# Altium schematic symbol library SchLibrary.SchLib: 84 symbols
Pins are listed as number, name and electrical type; pins without a type are passive.

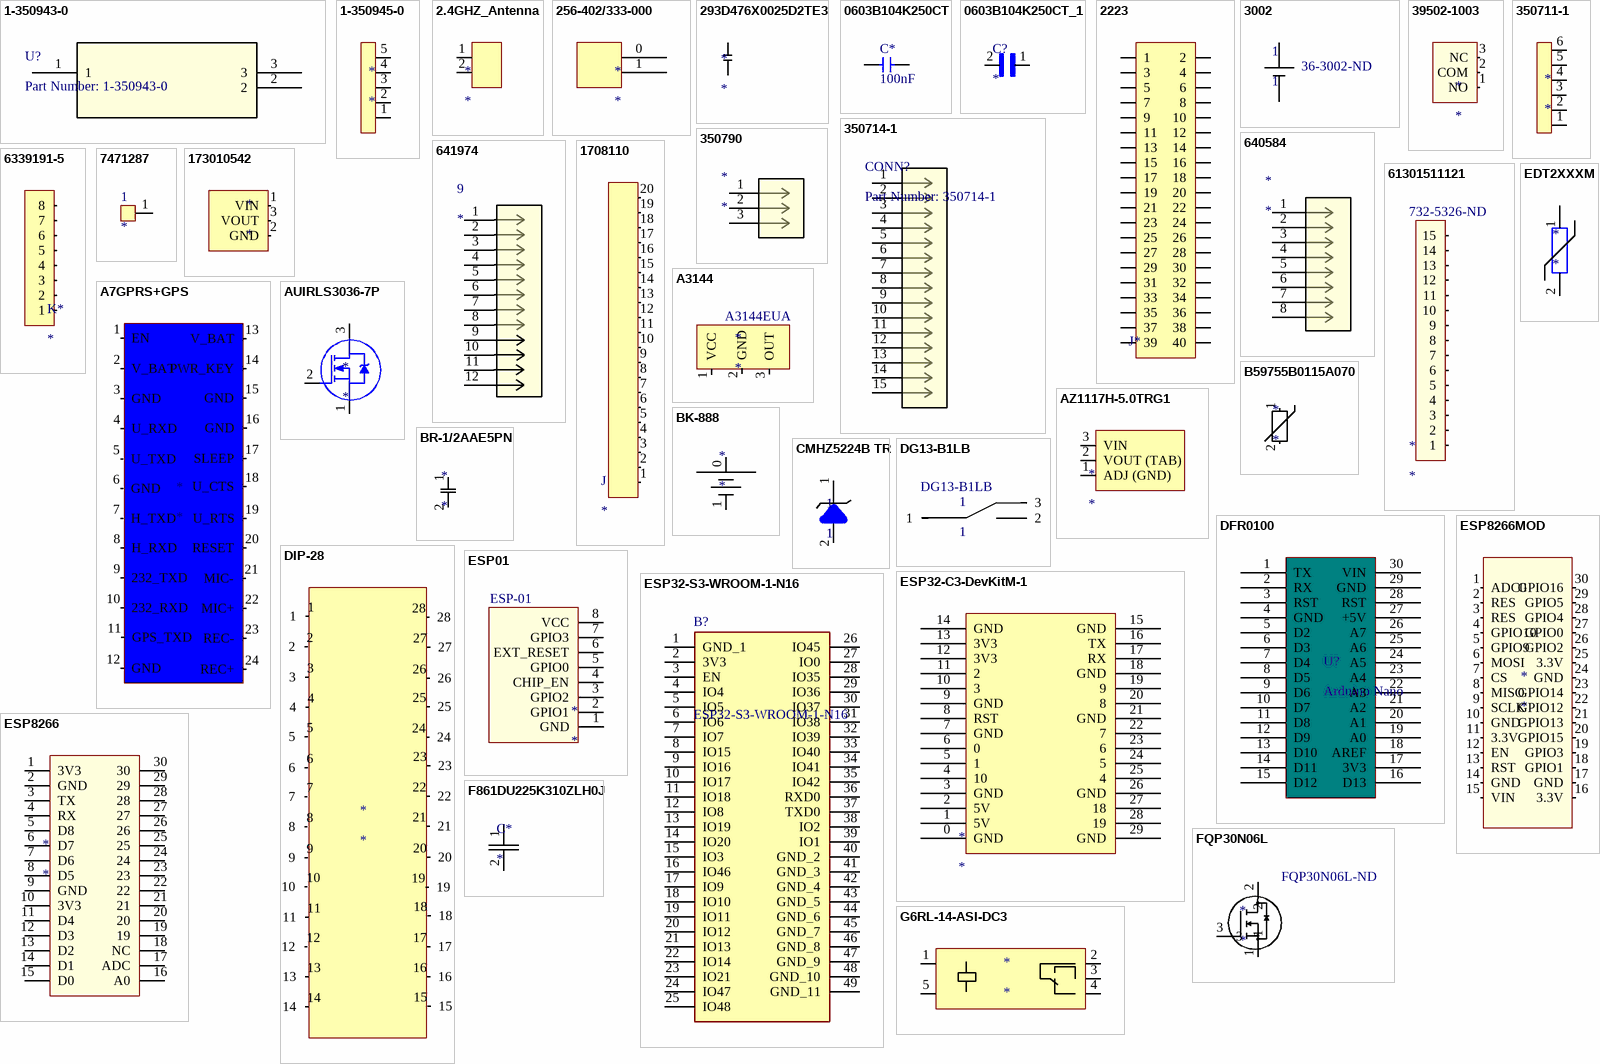
[diagram p0: symbols 1-350943-0 to G6RL-14-ASI-DC3]

## 1-350943-0
designator U?, comment Part Number: 1-350943-0
No Description Available; Vendor: TE Connectivity; Built_By: EMA_UL_Team; Manufacturer_Part_Number: 1-350943-0; Copyright: Copyright (C) 2018 Accelerated Designs. All rights reserved; RefDes: RefDes; Type: DEV; Value: Value
footprint 1-350943-0
pins: 1, 2, 3

## 1-350945-0
designator *
footprint 1-350945-0
pins: 1 GND, 2 GND, 3 GND, 4 GND, 5 GND

## 2.4GHZ_Antenna
designator *
footprint 2.54GHZ_Antenna
pins: 1, 2

## 256-402/333-000
designator *
footprint 256-402/333-000
pins: 0, 1

## 293D476X0025D2TE3
designator *
footprint 293D476X0025D2TE3
pins: 1, 2

## 0603B104K250CT
designator C*, comment 100nF
footprint 0603B104K250 (0603 Capacitor 100nF)
pins: 1, 2

## 0603B104K250CT_1
designator C?
SMD Condensador CerÃ¡mico 100nF 25V Â±10% X7R 0603 POE / WALSIN; MP: 0603B104K250CT; MF: {'manufacturer': u'Walsin Technology Corporation'}; Availability: Unavailable; Package: None; Value: *; Price: None
footprint CAPC1608X87N
pins: 1, 2

## 2223
designator J*  (value not drawn)
40 PIN 20X2 CONN
footprint 2223 (40 PIN 20X2 CONN)
pins: 1, 2, 3, 4, 5, 6, 7, 8, 9, 10, 11, 12, 13, 14, 15, 16, 17, 18, 19, 20, 21, 22, 23, 24, 25, 26, 27, 28, 29, 30, 31, 32, 33, 34, 35, 36, 37, 38, 39, 40

## 3002
designator 1, comment 1  Supplier Part Number 1: 36-3002-ND
Supplier 1: Digi-Key
footprint 3002
pins: 1 "POS", 2 "NEG"

## 39502-1003
designator *
footprint 39502-1003
pins: 1 NO, 2 COM, 3 NC

## 350711-1
designator *
footprint 350711
pins: 1 GND, 2 GND, 3 GND, 4 GND, 5 GND, 6 GND

## 350714-1
designator CONN?, comment Part Number: 350714-1
15 PIN VERT MATE N LOCK; Vendor: TE Connectivity; Built_By: EMA_UL_Team; Manufacturer_Part_Number: 350714-1; Copyright: Copyright (C) 2016 Accelerated Designs. All rights reserved; RefDes: RefDes; Type: DEV; Value: Value
footprint 350714-1
pins: 1, 2, 3, 4, 5, 6, 7, 8, 9, 10, 11, 12, 13, 14, 15

## 350790
designator *
footprint 350790
pins: 1, 2, 3

## 640584
designator *
footprint 640584-1
pins: 1, 2, 3, 4, 5, 6, 7, 8

## 641974
designator 9
footprint 641974
pins: 1, 2, 3, 4, 5, 6, 7, 8, 9, 10, 11, 12

## 1708110
designator J
footprint 1708110
pins: 1, 2, 3, 4, 5, 6, 7, 8, 9, 10, 11, 12, 13, 14, 15, 16, 17, 18, 19, 20

## 6339191-5
designator K*
RJ45 Female SMD
footprint 6339191-5
pins: 1, 2, 3, 4, 5, 6, 7, 8

## 7471287
designator 1
footprint 7471287
pins: 1 GND

## 173010542
designator *
footprint 173010542
pins: 1 VIN, 2 GND, 3 VOUT

## 61301511121
designator *  Supplier Part Number 1: 732-5326-ND
WURTH ELEKTRONIK         61301511121            Board-To-Board Connector, Vertical, WR-PHD Series, Through Hole, Header, 15 Contacts, 2.54 mm; Manufacturer: Wurth Electronics; Number of Positions: 15; Gender: Male; Connector Type: Male Pin; Pitch: 0.1inch; Supplier 1: Digi-Key; Manufacturer Part Number: 61301511121; RoHS: Yes; Category: Connectors; Stock 1: 961; Pricing 1: 1=0.82000, 10=0.69700, 25=0.58120, 50=0.48400, 100=0.44000, 500=0.40000 (USD); Mount: Through Hole; Contact Plating: Gold; Contact Material: Copper; Color: Black; Number of Rows: 1; Packaging: Bulk; Termination: Solder; Number of Contacts: 15; Contact Mating Length: 0.236inch; REACH SVHC: Unknown; RoHS Compliant: Yes; ComponentLink1URL: http://www.farnell.com/cad/1737268.pdf?src-supplier=Element14; ComponentLink1Description: http://www.farnell.com/cad/1737268.pdf?src-supplier=Element14; ComponentLink2URL: https://katalog.we-online.de/em/datasheet/6130xx11121.pdf?src-supplier=Digi-Key; ComponentLink2Description: https://katalog.we-online.de/em/datasheet/6130xx11121.pdf?src-supplier=Digi-Key
footprint 61301511121
pins: 1, 2, 3, 4, 5, 6, 7, 8, 9, 10, 11, 12, 13, 14, 15

## A7GPRS+GPS
designator *
3G Controller
pins: 1 EN, 2 V_BAT, 3 GND, 4 U_RXD, 5 U_TXD, 6 GND, 7 H_TXD, 8 H_RXD, 9 232_TXD, 10 232_RXD, 11 GPS_TXD, 12 GND, 13 V_BAT, 14 PWR_KEY, 15 GND, 16 GND, 17 SLEEP, 18 U_CTS, 19 U_RTS, 20 RESET, 21 MIC-, 22 MIC+, 23 REC-, 24 REC+

## A3144
designator *  Supplier Part Number 1: A3144EUA
Hall Effect Sensor; Supplier 1: Arrow
pins: 1 VCC "COIL PIN 1", 2 GND "COIL PIN 1", 3 OUT "COIL PIN 1"

## AUIRLS3036-7P
designator *
pins: 1 S, 2 G, 3 D

## AZ1117H-5.0TRG1
designator *
footprint SOT230P700X180-4N
pins: 1 ADJ (GND), 2 VOUT (TAB), 3 VIN

## B59755B0115A070
designator *
footprint B59755B0115A070 (PTC, 500)
pins: 1, 2

## BK-888
designator *
pins: 0 +, 1 Neg

## BR-1/2AAE5PN
designator *
footprint BR-1/2AAE5PN
pins: 1 "NO", 2 "NO"

## CMHZ5224B TR
designator 1, comment 1
footprint CMHZ5224B TR
pins: 1 "DIODE PIN 1", 2 "DIODE PIN 1"

## DFR0100
designator U?, comment Arduino Nano
Supplier 1: Digi-Key; Supplier Part Number 1: 1738-1026-ND
footprint Arduino Nano
pins: 1 TX, 2 RX, 3 RST, 4 GND, 5 D2, 6 D3, 7 D4, 8 D5, 9 D6, 10 D7, 11 D8, 12 D9, 13 D10, 14 D11, 15 D12, 16 D13, 17 3V3, 18 AREF, 19 A0, 20 A1, 21 A2, 22 A3, 23 A4, 24 A5, 25 A6, 26 A7, 27 +5V, 28 RST, 29 GND, 30 VIN

## DG13-B1LB
designator 1, comment 1  Supplier Part Number 1: DG13-B1LB
Supplier 1: Arrow
footprint DG13-B1LB
pins: 1 "COMMON", 2 "NO", 3 "NO"

## DIP-28
designator *
footprint DIP-28
pins: 1, 2, 3, 4, 5, 6, 7, 8, 9, 10, 11, 12, 13, 14, 15, 16, 17, 18, 19, 20, 21, 22, 23, 24, 25, 26, 27, 28

## EDT2XXXM
designator *
footprint EDT2XXXM
pins: 1 "GND", 2 "GND"

## ESP01
designator *
footprint ESP-01
pins: 1 GND, 2 GPIO1, 3 GPIO2, 4 CHIP_EN, 5 GPIO0, 6 EXT_RESET, 7 GPIO3, 8 VCC
text: ESP-01

## ESP32-C3-DevKitM-1
designator *
ESP32-C3-DevKitM-1
pins: 0 GND, 1 5V, 2 5V, 3 GND, 4 10, 5 1, 6 0, 7 GND, 8 RST, 9 GND, 10 3, 11 2, 12 3V3, 13 3V3, 14 GND, 15 GND, 16 TX, 17 RX, 18 GND, 19 9, 20 8, 21 GND, 22 7, 23 6, 24 5, 25 4, 26 GND, 27 18, 28 19, 29 GND

## ESP32-S3-WROOM-1-N16
designator B?
WiFi Modules - 802.11 [Engineering Samples] SMD Module, ESP32-S3, 16 MB SPI Flash, PCB Antenna; Manufacturer_Name: Espressif Systems; Geometry.Height: 3.25mm; Mouser Part Number: 356-ESP32S3WROOM1N16; Mouser Price/Stock: https://www.mouser.co.uk/ProductDetail/Espressif-Systems/ESP32-S3-WROOM-1-N16?qs=Li%252BoUPsLEntjPrtJwwS5Pw%3D%3D; Manufacturer_Part_Number: ESP32-S3-WROOM-1-N16; Datasheet Link: https://www.espressif.com/sites/default/files/documentation/esp32-s3-wroom-1_wroom-1u_datasheet_en.pdf
footprint ESP32S3WROOM1N16
pins: 1 GND_1, 2 3V3, 3 EN, 4 IO4, 5 IO5, 6 IO6, 7 IO7, 8 IO15, 9 IO16, 10 IO17, 11 IO18, 12 IO8, 13 IO19, 14 IO20, 15 IO3, 16 IO46, 17 IO9, 18 IO10, 19 IO11, 20 IO12, 21 IO13, 22 IO14, 23 IO21, 24 IO47, 25 IO48, 26 IO45, 27 IO0, 28 IO35, 29 IO36, 30 IO37, 31 IO38, 32 IO39, 33 IO40, 34 IO41, 35 IO42, 36 RXD0, 37 TXD0, 38 IO2, 39 IO1, 40 GND_2, 41 GND_3, 42 GND_4, 43 GND_5, 44 GND_6, 45 GND_7, 46 GND_8, 47 GND_9, 48 GND_10, 49 GND_11

## ESP8266
designator *
pins: 1 3V3 "GND", 2 GND, 3 TX "GND", 4 RX "GND", 5 D8 "GND", 6 D7 "GND", 7 D6 "GND", 8 D5 "GND", 9 GND, 10 3V3 "GND", 11 D4 "GND", 12 D3 "GND", 13 D2 "GND", 14 D1 "GND", 15 D0 "GND", 16 A0 "GND", 17 ADC "GND", 18 NC "GND", 19 "GND", 20 "GND", 21 "GND", 22 "GND", 23 "GND", 24 "GND", 25 "GND", 26 "GND", 27 "GND", 28 "GND", 29 "GND", 30 "GND"

## ESP8266MOD
designator *
footprint ESP8266NODEMCU (NODEMCU ESP8266)
pins: 1 ADC0, 2 RES, 3 RES, 4 GPIO10, 5 GPIO9, 6 MOSI, 7 CS, 8 MISO, 9 SCLK, 10 GND, 11 3.3V, 12 EN, 13 RST, 14 GND, 15 VIN, 16 3.3V, 17 GND, 18 GPIO1, 19 GPIO3, 20 GPIO15, 21 GPIO13, 22 GPIO12, 23 GPIO14, 24 GND, 25 3.3V, 26 GPIO2, 27 GPIO0, 28 GPIO4, 29 GPIO5, 30 GPIO16

## F861DU225K310ZLH0J
designator C*
footprint F861DU225K310ZLH0J (FILM CAPACITOR, 2.2UF, 310V)
pins: 1 GND "1", 2 GND "1"

## FQP30N06L
designator *  Supplier Part Number 1: FQP30N06L-ND
Supplier 1: Digi-Key
footprint FQP30N06L (TO-220)
pins: 1, 2, 3

## G6RL-14-ASI-DC3
designator *
footprint G6RL-14-ASI-DC3
pins: 1, 2, 3, 4, 5

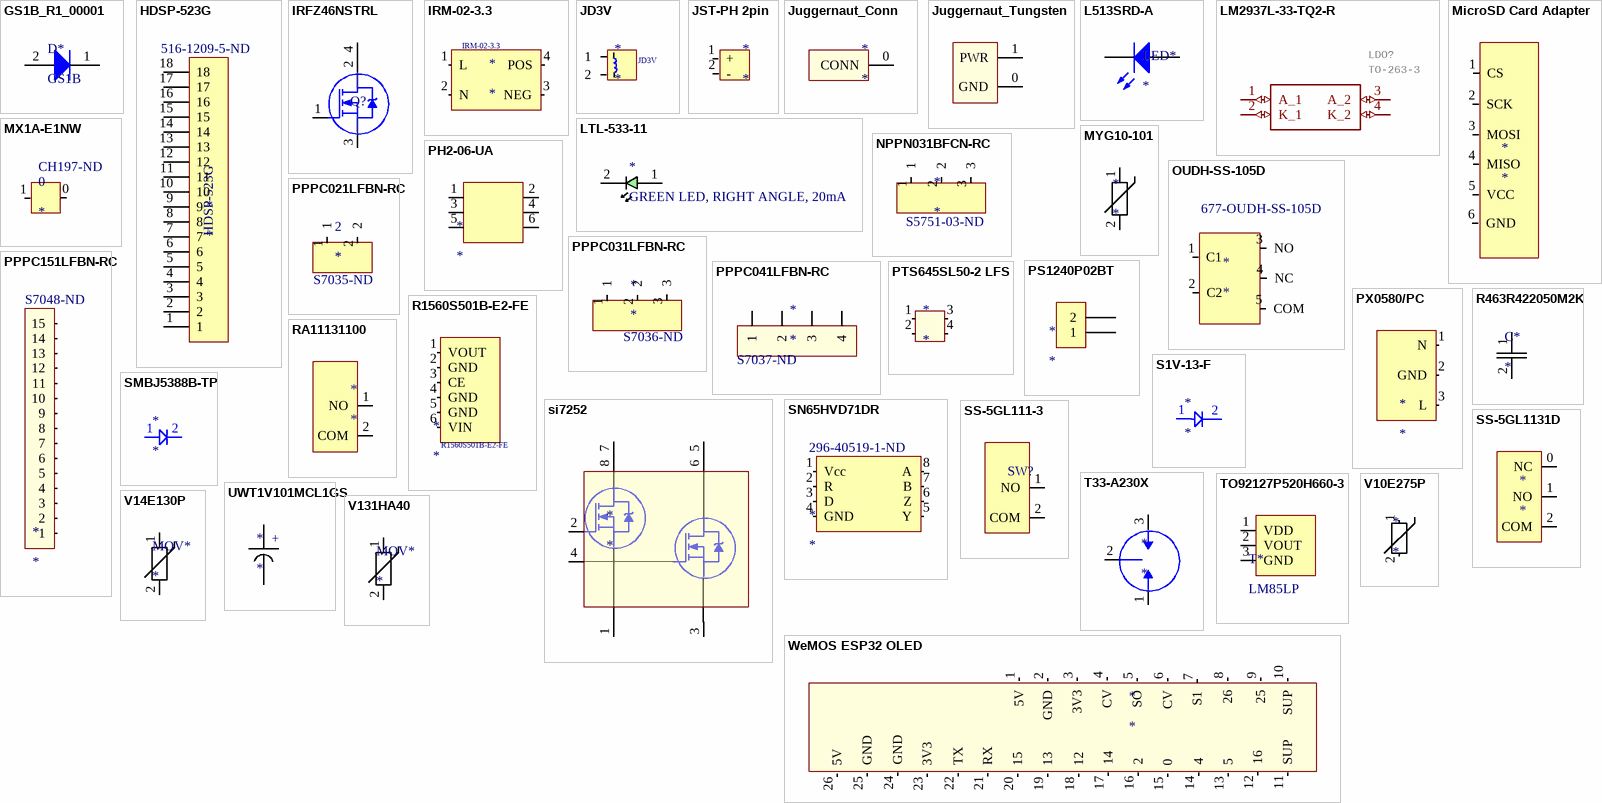
[diagram p1: symbols GS1B_R1_00001 to WeMOS ESP32 OLED]

## GS1B_R1_00001
designator D*, comment GS1B
footprint GS1B_R1_00001
pins: 1 K, 2 A

## HDSP-523G
designator *  Supplier Part Number 1: 516-1209-5-ND
7 segment display; Manufacturer: Broadcom Avago; Manufacturer Part Number: HDSP-523G; Forward Voltage: 2V; Luminous Intensity: 3.5mcd; Forward Current: 10mA; Max Power Dissipation: 105mW; Number of Characters: 2; Element Configuration: Common Cathode; Illumination Color: Green; Wavelength: 570nm; Viewing Area (height): 14.22mm; Number of Elements: 16; Reverse Voltage: 5V; Supplier 1: Digi-Key; RoHS: Yes; Stock 1: 1877; Pricing 1: 1 = 2.08000, 10 = 1.84400, 25 = 1.36840, 100 = 1.18980, 250 = 1.07080, 500 = 0.95182, 1000 = 0.81797, 2500 = 0.77336 (USD); Mount: Through Hole; Case/Package: DIP; Number of Pins: 18; Color: Green; Min Operating Temperature: -35°C; Max Operating Temperature: 85°C; Test Current: 10mA; Packaging: Rail/Tube; Package Quantity: 200; Operating Supply Voltage: 2V; Power Dissipation: 105mW; Dominant Wavelength: 570nm; Power Consumption: 105mW; Number of Positions: 2; Length: 25mm; Height: 0.732inch; Width: 0.984inch; Depth: 18.6mm; REACH SVHC: No SVHC; Lead Free: Lead Free; ComponentLink1URL: https://datasheet.ciiva.com/14162/rp660026-14162444.pdf?src-supplier=Distrelec; ComponentLink1Description: https://datasheet.ciiva.com/14162/rp660026-14162444.pdf?src-supplier=Distrelec; ComponentLink2URL: https://datasheet.ciiva.com/1229/95204-1229279.pdf?src-supplier=Element14; ComponentLink2Description: https://datasheet.ciiva.com/1229/95204-1229279.pdf?src-supplier=Element14
footprint HDSP-523G (7-segment display)
pins: 1, 2 "1", 3 "1", 4 "1", 5 "1", 6 "1", 7 "1", 8 "1", 9 "1", 10 "1", 11 "1", 12 "1", 13 "1", 14 "1", 15 "1", 16 "1", 17 "1", 18 "1"

## IRFZ46NSTRL
designator Q?, comment QD2PAK  (value not drawn)
MOSFET N-CH 55V 53A D2PAK
footprint D2PAK
pins: 1 G, 2 D, 3 S, 4 D

## IRM-02-3.3
designator *
230VAC-120VAC to 3.3V Power Supply
footprint IRM-02-3.3 (POWER SUPPLY, 3.3V)
pins: 1 L, 2 N, 3 NEG, 4 POS

## JD3V
designator *
Current Transformer
footprint JD3V (Current Transformer)
pins: 1 "COIL PIN 1", 2 "COIL PIN 1"

## JST-PH 2pin
designator *
footprint JST-PH 2PIN
pins: 1 +, 2 -

## Juggernaut_Conn
designator *
footprint Juggernaut_conn (pad)
pins: 0 CONN "GND"

## Juggernaut_Tungsten
designator ?
footprint Juggernaut_Tungsten
pins: 0 GND, 1 PWR "GND"

## L513SRD-A
designator LED*
footprint L513SRD-A
pins: 1, 2

## LM2937L-33-TQ2-R
designator LDO?, comment TO-263-3
500mA Fixed 3.3V~3.3V Positive 26V TO-263-3 Linear Voltage Regulators (LDO) ROHS; Manufacturer_Name: ROHM Semiconductor; GateName_1: G$1; SymbolName_1: RB225NS-40TL; LibraryName: RB225NS-40TL; DeviceSetName: RB225NS-40TL; Package: RFN10NS3STL; Mouser_Part_Number: 755-RB225NS-40TL; Mouser_Price-Stock: https://www.mouser.co.uk/ProductDetail/ROHM-Semiconductor/RB225NS-40TL?qs=IsRgwgmxh6%2FAPCsbIbPZ2w%3D%3D; Manufacturer_Part_Number: RB225NS-40TL; Height: mm
footprint LM2937L-33-TQ2-R (TO-263-3)
pins: 1 A_1 (io), 2 K_1 (io), 3 A_2 (io), 4 K_2 (io)

## LTL-533-11
designator *, comment GREEN LED, RIGHT ANGLE, 20mA
footprint LTL-533-11 (LED, GREEN, RIGHT ANGLE)
pins: 1 "1", 2 GND

## MicroSD Card Adapter
designator *
footprint SD Adapter
pins: 1 CS, 2 SCK, 3 MOSI, 4 MISO, 5 VCC, 6 GND

## MX1A-E1NW
designator 0  Supplier Part Number 1: CH197-ND
Pushbutton Switch SPST-NO Keyswitch Through Hole; Manufacturer: Cherry; Manufacturer Part Number: MX1A-E1NW; Mechanical Life: 20000000Cycles; Voltage Rating (AC): 12V; Throw Configuration: SPST; Current Rating: 10mA; Contact Resistance: 200mR; Operating Force: 0.5N; Switch Function: Off-Mom; Row Spacing: 2.54mm; Actuator Length: 3.6mm; Supplier 1: Digi-Key; RoHS: Yes; Stock 1: 14219; Pricing 1: 1 = 0.90000, 10 = 0.84000, 25 = 0.80000, 50 = 0.76000, 100 = 0.74000, 250 = 0.72000, 500 = 0.68000, 1000 = 0.64000, 5000 = 0.54000 (USD); Mount: Through Hole; Contact Plating: Gold; Contact Material: Gold,Silver; Number of Terminals: 2; Housing Material: Thermoplastic; Min Operating Temperature: -10°C; Max Operating Temperature: 70°C; Voltage Rating (DC): 12V; Packaging: Bulk; Max Voltage Rating (AC): 12V; Max Voltage Rating (DC): 12V; Max Current Rating: 10mA; Package Quantity: 1000; Termination: PC Pin; Electrical Life: 20000000Cycles; Orientation: Straight; Contact Current Rating: 10mA; Length: 15.6mm; Terminal Pitch: 6.35mm; Width: 15.6mm; Lead Free: Lead Free; Flammability Rating: UL94 HB; ComponentLink1URL: https://media.digikey.com/pdf/Data%20Sheets/Cherry%20PDFs/MX%20Series.pdf; ComponentLink1Description: https://media.digikey.com/pdf/Data%20Sheets/Cherry%20PDFs/MX%20Series.pdf; ComponentLink2URL: http://www.mouser.com/ds/2/71/mx_cat-216303.pdf; ComponentLink2Description: http://www.mouser.com/ds/2/71/mx_cat-216303.pdf
footprint MX1A-E1NW
pins: 0, 1

## MYG10-101
designator *
pins: 1, 2

## NPPN031BFCN-RC
designator *  Supplier Part Number 1: S5751-03-ND
CONN RECEPT 2MM SINGLE STR 3POS; Manufacturer: Sullins; Manufacturer Part Number: NPPN031BFCN-RC; Number of Positions: 3; Connector Type: Header,Socket; Pitch: 0.079inch; Supplier 1: Digi-Key; RoHS: Yes; Stock 1: 13348; Pricing 1: 1 = 0.55000, 10 = 0.51800, 100 = 0.39740, 500 = 0.34560, 1000 = 0.28512, 5000 = 0.25056, 10000 = 0.24960 (USD); Mount: Through Hole; Color: Black; Contact Plating: Gold; Package Quantity: 1; Number of Rows: 1; Packaging: Bulk; Termination: Solder; Lead Free: Lead Free; ComponentLink1URL: https://drawings-pdf.s3.amazonaws.com/10483.pdf; ComponentLink1Description: https://drawings-pdf.s3.amazonaws.com/10483.pdf
footprint NPPN031BFCN-RC
pins: 1 "COIL PIN 1", 2 "COIL PIN 1", 3 "COIL PIN 1"

## OUDH-SS-105D
designator *  Supplier Part Number 1: 677-OUDH-SS-105D
Supplier 1: Mouser
footprint OUDH-SS-105D
pins: 1 C1 "COIL PIN 1", 2 C2 "COIL PIN 1", 3 NO "COIL PIN 1", 4 NC "COIL PIN 1", 5 COM "COIL PIN 1"

## PH2-06-UA
designator *
footprint PH2-06-UA (Six pin header (3x2))
pins: 1, 2, 3, 4, 5, 6

## PPPC021LFBN-RC
designator 2  Supplier Part Number 1: S7035-ND
CONN HEADER FEMALE 2POS .1" GOLD; Manufacturer: Sullins; Manufacturer Part Number: PPPC021LFBN-RC; Number of Positions: 2; Connector Type: Header,Socket; Pitch: 0.1inch; Supplier 1: Digi-Key; RoHS: Yes; Stock 1: 27966; Pricing 1: 1 = 0.33000, 10 = 0.31500, 100 = 0.22050, 500 = 0.18900, 1000 = 0.15750, 5000 = 0.13500, 10000 = 0.13000 (USD); Mount: Through Hole; Color: Black; Contact Plating: Gold; Contact Material: Bronze; Housing Material: Plastic; Package Quantity: 1000; Number of Rows: 1; Packaging: Bulk; Termination: Solder; Length: 5.58mm; Height: 8.5mm; Width: 2.5mm; Lead Free: Lead Free
footprint PPPC021LFBN-RC
pins: 1 "COIL PIN 1", 2 "COIL PIN 1"

## PPPC031LFBN-RC
designator *  Supplier Part Number 1: S7036-ND
CONN HEADER FEMALE 3POS .1" GOLD; Manufacturer: Sullins; Manufacturer Part Number: PPPC031LFBN-RC; Number of Positions: 3; Connector Type: Header,Socket; Pitch: 0.1inch; Supplier 1: Digi-Key; RoHS: Yes; Stock 1: 16083; Pricing 1: 1 = 0.37000, 10 = 0.35100, 100 = 0.26910, 500 = 0.23400, 1000 = 0.19305, 5000 = 0.16965, 10000 = 0.16900 (USD); Mount: Through Hole; Color: Black; Contact Plating: Gold; Contact Material: Bronze; Housing Material: Plastic; Package Quantity: 1000; Number of Rows: 1; Packaging: Bulk; Termination: Solder; Length: 8.12mm; Height: 8.5mm; Width: 2.5mm; Lead Free: Lead Free
footprint PPPC031LFBN-RC
pins: 1 "COIL PIN 1", 2 "COIL PIN 1", 3 "COIL PIN 1"

## PPPC041LFBN-RC
designator *  Supplier Part Number 1: S7037-ND
CONN HEADER FEMALE 4POS .1" GOLD; Manufacturer: Sullins; Manufacturer Part Number: PPPC041LFBN-RC; Number of Positions: 4; Pitch: 0.1inch; Supplier 1: Digi-Key; RoHS: Yes; Stock 1: 23014; Pricing 1: 1 = 0.47000, 10 = 0.43700, 100 = 0.33530, 500 = 0.29160, 1000 = 0.24057, 5000 = 0.21141, 10000 = 0.21060 (USD); Mount: Through Hole; Color: Black; Contact Plating: Gold; Contact Material: Bronze; Housing Material: Plastic; Package Quantity: 1000; Number of Rows: 1; Packaging: Bulk; Termination: Solder; Connector Type: Header; Length: 10.7mm; Height: 8.5mm; Width: 2.5mm; Lead Free: Lead Free; ComponentLink1URL: https://media.digikey.com/pdf/Data%20Sheets/Sullins%20PDFs/Female_Headers.100_DS.pdf?src-supplier=Digi-Key; ComponentLink1Description: https://media.digikey.com/pdf/Data%20Sheets/Sullins%20PDFs/Female_Headers.100_DS.pdf?src-supplier=Digi-Key; ComponentLink2URL: http://www.sullinscorp.com/catalogs/78_Page80-81_HEADER_.100_2.54mm_FEMALE.pdf?src-supplier=Future+Electronics; ComponentLink2Description: http://www.sullinscorp.com/catalogs/78_Page80-81_HEADER_.100_2.54mm_FEMALE.pdf?src-supplier=Future+Electronics
footprint PPPC041LFBN-RC
pins: 1, 2, 3, 4

## PPPC151LFBN-RC
designator *  Supplier Part Number 1: S7048-ND
CONN HEADER FMALE 15POS .1" GOLD; Manufacturer: Sullins; Manufacturer Part Number: PPPC151LFBN-RC; Number of Positions: 15; Pitch: 0.1inch; Supplier 1: Digi-Key; RoHS: Yes; Category: Connectors; Stock 1: 4250; Pricing 1: 1=1.02000, 10=0.89300, 100=0.77020, 500=0.63018, 1000=0.56016, 5000=0.50570 (USD); Mount: Through Hole; Color: Black; Contact Plating: Gold; Contact Material: Bronze; Housing Material: Plastic; Package Quantity: 1000; Number of Rows: 1; Packaging: Bulk; Termination: Solder; Connector Type: Header; Contact Type: Female Socket; Length: 38.6mm; Width: 2.5mm; Height: 8.5mm; Lead Free: Lead Free; RoHS Compliant: Yes; ComponentLink1URL: https://media.digikey.com/pdf/Data%20Sheets/Sullins%20PDFs/Female_Headers.100_DS.pdf?src-supplier=Digi-Key; ComponentLink1Description: https://media.digikey.com/pdf/Data%20Sheets/Sullins%20PDFs/Female_Headers.100_DS.pdf?src-supplier=Digi-Key
footprint PPPC151LFBN-RC
pins: 1, 2, 3, 4, 5, 6, 7, 8, 9, 10, 11, 12, 13, 14, 15

## PS1240P02BT
designator *
Buzzer, Piezo, 3V, 12.2mm
footprint PS1240P02BT (BUZZER PIEZO 3V 12.2MM TH)
pins: 1, 2

## PTS645SL50-2 LFS
designator *
footprint PTS645SL50-2 LFS
pins: 1, 2, 3, 4

## PX0580/PC
designator *
footprint PX0580/PC
pins: 1 N, 2 GND, 3 L

## R463R422050M2K
designator C*
footprint R463R422050M2K (kemet capacitor)
pins: 1 GND "1", 2 GND "1"

## R1560S501B-E2-FE
designator *
footprint HSOP-6J (LDO Footpring)
pins: 1 VOUT, 2 GND, 3 CE, 4 GND, 5 GND, 6 VIN

## RA11131100
designator *
footprint RA11131100 (Rocker Switch)
pins: 1 NO, 2 COM

## S1V-13-F
designator *
footprint S1V-13-F
pins: 1 GND, 2 GND

## si7252
designator *
footprint si7252 (dual channel npn MOSFET)
pins: 1 S1, 2 G2, 3 S2, 4 G2, 5 D2, 6 D2, 7 D1, 8 D1

## SMBJ5388B-TP
designator *
footprint SMBJ5388B-TP
pins: 1 GND, 2 GND

## SN65HVD71DR
designator *  Supplier Part Number 1: 296-40519-1-ND
Single Transmitter/Receiver RS-485 8-Pin SOIC T/R; Manufacturer: Texas Instruments; Manufacturer Part Number: SN65HVD71DR; Data Rate: 400Kbps; Number of Transmitters: 1; Operating Supply Voltage: 3.3V; Simplex/Duplex: Full Duplex; Receiver Hysteresis: 70mV; Supplier 1: Digi-Key; RoHS: Yes; Category: RS-232 / RS-422 / RS-485 Interface ICs; Stock 1: 1611; Pricing 1: 1=3.41000, 10=3.06300, 25=2.89520, 100=2.50930, 250=2.38064, 500=2.13616, 1000=2.12450 (USD); Mount: Surface Mount; Case/Package: SOIC; Number of Pins: 8; Min Operating Temperature: -40°C; Max Operating Temperature: 125°C; Packaging: Tape and Reel; Logic Function: Receiver; Lead Free: Lead Free; RoHS Compliant: Yes; ComponentLink1URL: https://datasheet.ciiva.com/48475/sn65hvd70-48475464.pdf?src-supplier=Avnet; ComponentLink1Description: https://datasheet.ciiva.com/48475/sn65hvd70-48475464.pdf?src-supplier=Avnet
footprint SN65HVD71DR (SOIC-8)
pins: 1 Vcc, 2 R, 3 D, 4 GND, 5 Y, 6 Z, 7 B, 8 A

## SS-5GL111-3
designator SW?, comment SWITCH SNAP ACT SPST-NO 5A 125V  (value not drawn)
footprint SS-5GL1131-3
pins: 1 NO, 2 COM

## SS-5GL1131D
designator *
SWITCH SNAP ACT SPST-NO 5A 125V
footprint SS-5GL1131D
pins: 0 NC, 1 NO, 2 COM

## T33-A230X
designator *
230V GDT, 2 Pole
pins: 1 S, 2 G, 3 D

## TO92127P520H660-3
designator T*, comment LM85LP
footprint TO92127P520H660-3
pins: 1 VDD, 2 VOUT, 3 GND

## UWT1V101MCL1GS
designator *
footprint UWT1V101MCL1GS (C*)
pins: 0 +, 1 -

## V10E275P
designator *
footprint V10E275P
pins: 1, 2

## V14E130P
designator MOV*
footprint V14E130P
pins: 1, 2

## V131HA40
designator MOV*
footprint V131HA40
pins: 1, 2

## WeMOS ESP32 OLED
designator *
footprint WeMOS ESP32 OLED
pins: 1 5V, 2 GND, 3 3V3, 4 CV, 5 SO, 6 CV, 7 S1, 8 26, 9 25, 10 SUP, 11 SUP, 12 16, 13 5, 14 4, 15 0, 16 2, 17 14, 18 12, 19 13, 20 15, 21 RX, 22 TX, 23 3V3, 24 GND, 25 GND, 26 5V

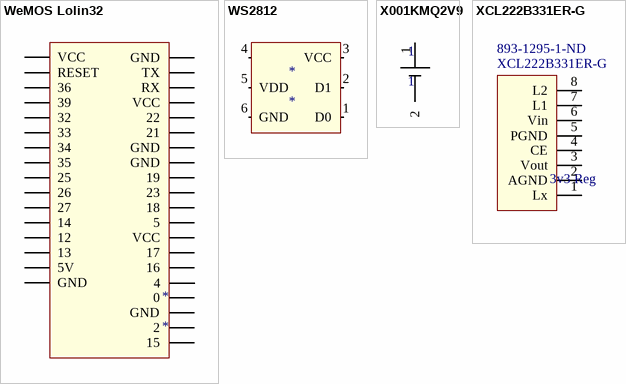
[diagram p2: symbols WeMOS Lolin32 to XCL222B331ER-G]

## WeMOS Lolin32
designator *
footprint WeMOS LoLIN 32 (WiFi Module)
pins: 0, 2 "1", 4, 5, 5V, 12, 13, 14, 15, 16, 17, 18, 19, 21, 22, 23, 25, 26, 27, 32, 33, 34, 35, 36, 39, GND, GND, GND, GND, GND, RESET, RX, TX, VCC, VCC, VCC

## WS2812
designator *
footprint WS2812
pins: 1 D0, 2 D1, 3 VCC, 4  , 5 VDD, 6 GND

## X001KMQ2V9
designator 1, comment 1
footprint X001KMQ2V9
pins: 1, 2

## XCL222B331ER-G
designator 3v3 Reg  Supplier Part Number 1: 893-1295-1-ND
Manufacturer: Torex; Manufacturer Part Number: XCL222B331ER-G; Number of Outputs: 1; Min Input Voltage: 2.5V; Max Input Voltage: 5.5V; Voltage - Output 1: 3.3V; Max Output Current: 500mA; Efficiency: 93%; Supplier 1: Digi-Key; RoHS: Yes; Stock 1: 4203; Pricing 1: 1 = 2.79000, 10 = 2.52400, 25 = 2.25320, 100 = 2.02780, 250 = 1.80252, 500 = 1.57718, 1000 = 1.30681 (USD); Mount: Surface Mount; Case/Package: SMD/SMT; Number of Pins: 8; Min Operating Temperature: -40°C; Max Operating Temperature: 105°C; Packaging: Tape and Reel; Features: UVLO; Length: 0.1inch; Height: 0.04inch; Width: 0.08inch; ComponentLink1URL: https://www.torexsemi.com/file/xcl221/XCL221-XCL222.pdf?src-supplier=Digi-Key; ComponentLink1Description: https://www.torexsemi.com/file/xcl221/XCL221-XCL222.pdf?src-supplier=Digi-Key
footprint XCL222B331ER-G (3v3 Regulator)
pins: 1 Lx, 2 AGND, 3 Vout, 4 CE, 5 PGND, 6 Vin, 7 L1, 8 L2